# Altium schematic symbol library 继电器.SchLib: 1 symbol
Pins are listed as number, name and electrical type; pins without a type are passive.

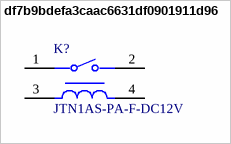
[diagram p0: symbol df7b9bdefa3caac6631df0901911d96]

## df7b9bdefa3caac6631df0901911d96
designator K?, comment JTN1AS-PA-F-DC12V
General Purpose Relay SPST-NO (1 Form A) 12VDC Coil 30A Through Hole; Operate Time: 20ms; Max Operating Temperature: 85°C; RoHS Compliant: Yes; Min Operating Temperature: -55°C; Mounting Technology: Through Hole,PCB; Current Rating: 30A; Pins: 4
footprint SLA-xxVDC-SL-A (一组常开，长：32mm，宽：27.6mm，高：20mm)
pins: 1, 2, 3, 4